# Altium schematic symbol library Altuim_Sch_Lib.SchLib: 63 symbols
Pins are listed as number, name and electrical type; pins without a type are passive.

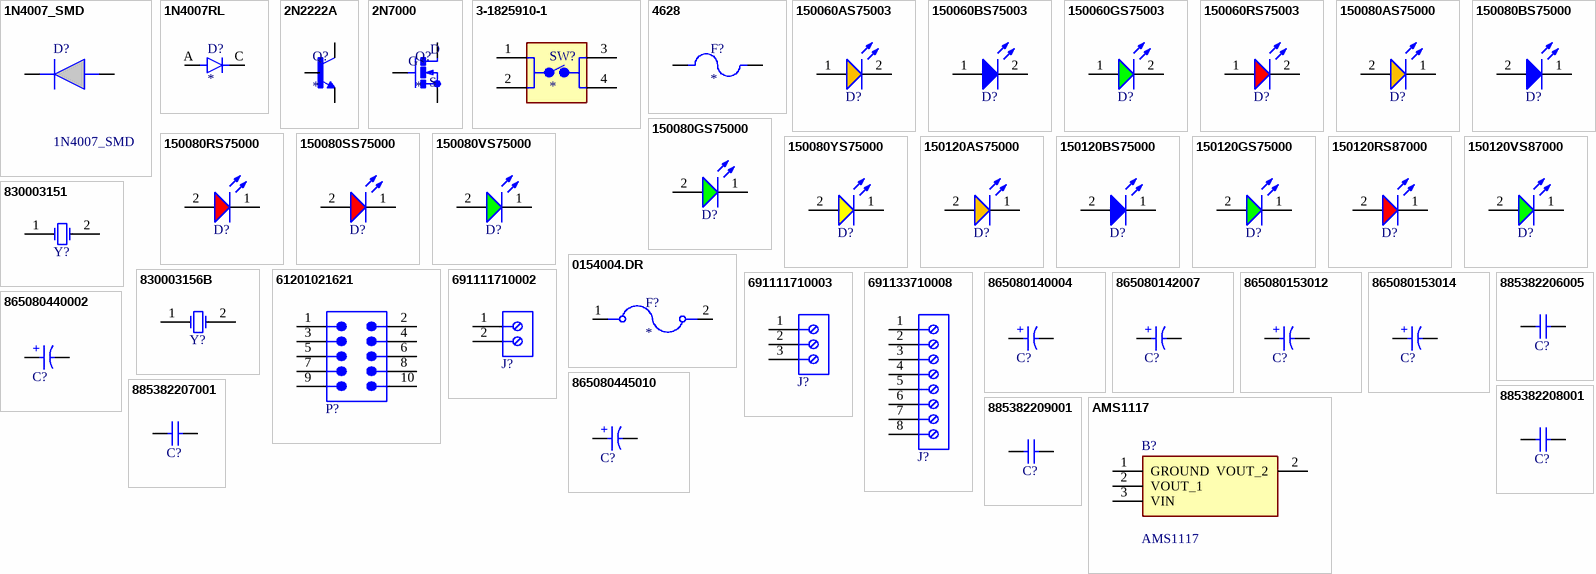
[diagram p0: symbols 1N4007_SMD to AMS1117]

## 1N4007_SMD
designator D?
RECTIFIER, 1KV, 1A, DO-214AC ROHS COMPLIANT: YES; Manufacturer_Name: MULTICOMP; Manufacturer_Part_Number: 1N4007 SMD; Geometry.Height: 2.62mm; Mouser Part Number: *; Mouser Price/Stock: *; Arrow Part Number: *; Arrow Price/Stock: *; Datasheet Link: https://componentsearchengine.com/Datasheets/2/1N4007 SMD.pdf
footprint DIOM5027X262N
footprint D3
pins: 1 K, 2 A

## 1N4007RL
designator D?
Diode Standard 1000 V 1A Through Hole Axial; MP: 1N4007RL; MF: ON Semiconductor; Availability: In Stock; Purchase-URL: https://pricing.snapeda.com/search/part/1N4007RL/?ref=eda; Package: DO-41-2 ON Semiconductor; Value: *; Check_prices: https://www.snapeda.com/parts/1N4007RL/Onsemi/view-part/?ref=eda; SnapEDA_Link: https://www.snapeda.com/parts/1N4007RL/Onsemi/view-part/?ref=snap; Price: None
footprint DIOAD1060W80L520D270
pins: A, C

## 2N2222A
designator Q?
Bipolar (BJT) Transistor NPN 40 V 600 mA 250MHz 625 mW Through Hole TO-92; MF: Diotec Semiconductor; MP: 2N2222A; Package: TO-92-3 Diotec; Check_prices: https://www.snapeda.com/parts/2N2222A/Diotec/view-part/?ref=eda; Value: *; Purchase-URL: https://pricing.snapeda.com/search/part/2N2222A/?ref=eda; Availability: In Stock; SnapEDA_Link: https://www.snapeda.com/parts/2N2222A/Diotec/view-part/?ref=snap; Price: None
footprint 2N2222
pins: 1 E, 2 B, 3 C

## 2N7000
designator Q?
N-Channel 60 V 350mA (Tc) 1W (Tc) Through Hole TO-92-3; MF: STMicroelectronics; MP: 2N7000; SnapEDA_Link: https://www.snapeda.com/parts/2N7000/STMicroelectronics/view-part/?ref=snap; Package: E-PKG AXIAL-LEADED-2 ON Semiconductor; Value: *; Check_prices: https://www.snapeda.com/parts/2N7000/STMicroelectronics/view-part/?ref=eda
footprint TO92-
footprint TO92
pins: 1 D, 2 G, 3 S

## 3-1825910-1
designator SW?
Switch Push Button OFF (ON) SPST Round Button 0.05A 24VDC Momentary Contact PC Pins Thru-Hole; MF: TE Connectivity; MP: 3-1825910-1; Value: *; SnapEDA_Link: https://www.snapeda.com/parts/3-1825910-1/TE+Connectivity+ALCOSWITCH+Switches/view-part/?ref=snap; Purchase-URL: https://pricing.snapeda.com/search/part/3-1825910-1/?ref=eda; Availability: In Stock; Price: None; Package: None; Check_prices: https://www.snapeda.com/parts/3-1825910-1/TE+Connectivity+ALCOSWITCH+Switches/view-part/?ref=eda
footprint TE_3-1825910-1
footprint TE_3-1825910-1
pins: 1, 2, 3, 4

## 4628
designator F?
5mm Slim Line Fuse holder; MP: 4628; MF: Keystone; Check_prices: https://www.snapeda.com/parts/4628/Keystone/view-part/?ref=eda; Value: *; Availability: In Stock; Price: None; Package: None; SnapEDA_Link: https://www.snapeda.com/parts/4628/Keystone/view-part/?ref=snap; Purchase-URL: https://pricing.snapeda.com/search/part/4628/?ref=eda
footprint FUSE_4628
pins: 1, 2

## 150060AS75003
designator D?, comment Amber, 2V, 140°  (value not drawn)
WL-SMCW Mono-color Chip LED Waterclear, size 0603, Amber, 2V, 140°; Manufacturer Part Number: 150060AS75003; Manufacturer: Wurth Elektronik; Case/Size Code: 0603; Chip Technology: AlInGaP; Dominant Wavelength: 605nm; Luminous Intensity: 350mcd; Peak Wavelength: 610nm; Category: Signal LEDs; Match Code: WL-SMCW; ComponentLink1Description: Website Link; ComponentLink1URL: https://www.we-online.com/redexpert/article/150060AS75003?ad; ComponentLink2Description: Datasheet Link; ComponentLink2URL: https://www.we-online.com/redexpert/spec/150060AS75003?ad; Mount: Surface Mount; Operating Temperature Max: 100°C; Operating Temperature Min: -40°C; Packaging: Tape and Reel; Length: 1.6mm; Width: 0.8mm; Height: 0.7mm; Emitting Color: Amber; Forward Voltage: 2V; Viewing Angle: 140°
simulation model 0603_150060AS75003
footprint WL-SMCW_0603_150060xx75000 (SMD Mono-color Chip LED, body 1.6x0.8mm)
pins: 1 A, 2 K

## 150060BS75003
designator D?, comment Blue, 3.2V, 140°  (value not drawn)
WL-SMCW Mono-color Chip LED Waterclear, size 0603, Blue, 3.2V, 140°; Manufacturer Part Number: 150060BS75003; Manufacturer: Wurth Elektronik; Case/Size Code: 0603; Chip Technology: InGaN; Dominant Wavelength: 470nm; Luminous Intensity: 350mcd; Peak Wavelength: 465nm; Category: Signal LEDs; Match Code: WL-SMCW; ComponentLink1Description: Website Link; ComponentLink1URL: https://www.we-online.com/redexpert/article/150060BS75003?ad; ComponentLink2Description: Datasheet Link; ComponentLink2URL: https://www.we-online.com/redexpert/spec/150060BS75003?ad; Mount: Surface Mount; Operating Temperature Max: 100°C; Operating Temperature Min: -40°C; Packaging: Tape and Reel; Length: 1.6mm; Width: 0.8mm; Height: 0.7mm; Emitting Color: Blue; Forward Voltage: 3.2V; Viewing Angle: 140°
simulation model 0603_150060BS75003
footprint WL-SMCW_0603_150060xx75000 (SMD Mono-color Chip LED, body 1.6x0.8mm)
pins: 1 A, 2 K

## 150060GS75003
designator D?, comment Green, 3.2V, 140°  (value not drawn)
WL-SMCW Mono-color Chip LED Waterclear, size 0603, Green, 3.2V, 140°; Manufacturer Part Number: 150060GS75003; Manufacturer: Wurth Elektronik; Case/Size Code: 0603; Chip Technology: InGaN; Dominant Wavelength: 525nm; Luminous Intensity: 1600mcd; Peak Wavelength: 515nm; Category: Signal LEDs; Match Code: WL-SMCW; ComponentLink1Description: Website Link; ComponentLink1URL: https://www.we-online.com/redexpert/article/150060GS75003?ad; ComponentLink2Description: Datasheet Link; ComponentLink2URL: https://www.we-online.com/redexpert/spec/150060GS75003?ad; Mount: Surface Mount; Operating Temperature Max: 100°C; Operating Temperature Min: -40°C; Packaging: Tape and Reel; Length: 1.6mm; Width: 0.8mm; Height: 0.7mm; Emitting Color: Green; Forward Voltage: 3.2V; Viewing Angle: 140°
simulation model 0603_150060GS75003
footprint WL-SMCW_0603_150060xx75000 (SMD Mono-color Chip LED, body 1.6x0.8mm)
pins: 1 A, 2 K

## 150060RS75003
designator D?, comment Red, 2V, 140°  (value not drawn)
WL-SMCW Mono-color Chip LED Waterclear, size 0603, Red, 2V, 140°; Manufacturer Part Number: 150060RS75003; Manufacturer: Wurth Elektronik; Case/Size Code: 0603; Chip Technology: AlInGaP; Dominant Wavelength: 625nm; Luminous Intensity: 530mcd; Peak Wavelength: 630nm; Category: Signal LEDs; Match Code: WL-SMCW; ComponentLink1Description: Website Link; ComponentLink1URL: https://www.we-online.com/redexpert/article/150060RS75003?ad; ComponentLink2Description: Datasheet Link; ComponentLink2URL: https://www.we-online.com/redexpert/spec/150060RS75003?ad; Mount: Surface Mount; Operating Temperature Max: 100°C; Operating Temperature Min: -40°C; Packaging: Tape and Reel; Length: 1.6mm; Width: 0.8mm; Height: 0.7mm; Emitting Color: Red; Forward Voltage: 2V; Viewing Angle: 140°
simulation model 0603_150060RS75003
footprint WL-SMCW_0603_150060xx75000 (SMD Mono-color Chip LED, body 1.6x0.8mm)
pins: 1 A, 2 K

## 150080AS75000
designator D?, comment Amber, 2V, 140°  (value not drawn)
WL-SMCW Mono-color Chip LED Waterclear, size 0805, Amber, 2V, 140°; Manufacturer Part Number: 150080AS75000; Manufacturer: Wurth Elektronik; Case/Size Code: 0805; Chip Technology: AlInGaP; Dominant Wavelength: 605nm; Luminous Intensity: 130mcd; Peak Wavelength: 610nm; Category: Signal LEDs; Match Code: WL-SMCW; ComponentLink1Description: Website Link; ComponentLink1URL: https://www.we-online.com/redexpert/article/150080AS75000?ad; ComponentLink2Description: Datasheet Link; ComponentLink2URL: https://www.we-online.com/redexpert/spec/150080AS75000?ad; Mount: Surface Mount; Operating Temperature Max: 85°C; Operating Temperature Min: -40°C; Packaging: Tape and Reel; Length: 2mm; Width: 1.25mm; Height: 0.7mm; Emitting Color: Amber; Forward Voltage: 2V; Viewing Angle: 140°
simulation model 0805_150080AS75000
footprint WL-SMCW_0805_150080xx75000 (SMD Mono-color Chip LED, body 2.0x1.25mm)
pins: 1 K, 2 A

## 150080BS75000
designator D?, comment Blue, 3.2V, 140°  (value not drawn)
WL-SMCW Mono-color Chip LED Waterclear, size 0805, Blue, 3.2V, 140°; Manufacturer Part Number: 150080BS75000; Manufacturer: Wurth Elektronik; Case/Size Code: 0805; Chip Technology: InGaN; Dominant Wavelength: 470nm; Luminous Intensity: 145mcd; Peak Wavelength: 465nm; Category: Signal LEDs; Match Code: WL-SMCW; ComponentLink1Description: Website Link; ComponentLink1URL: https://www.we-online.com/redexpert/article/150080BS75000?ad; ComponentLink2Description: Datasheet Link; ComponentLink2URL: https://www.we-online.com/redexpert/spec/150080BS75000?ad; Mount: Surface Mount; Operating Temperature Max: 85°C; Operating Temperature Min: -40°C; Packaging: Tape and Reel; Length: 2mm; Width: 1.25mm; Height: 0.7mm; Emitting Color: Blue; Forward Voltage: 3.2V; Viewing Angle: 140°
simulation model 0805_150080BS75000
footprint WL-SMCW_0805_150080xx75000 (SMD Mono-color Chip LED, body 2.0x1.25mm)
pins: 1 K, 2 A

## 150080GS75000
designator D?, comment Green, 3.2V, 140°  (value not drawn)
WL-SMCW Mono-color Chip LED Waterclear, size 0805, Green, 3.2V, 140°; Manufacturer Part Number: 150080GS75000; Manufacturer: Wurth Elektronik; Case/Size Code: 0805; Chip Technology: InGaN; Dominant Wavelength: 525nm; Luminous Intensity: 450mcd; Peak Wavelength: 515nm; Category: Signal LEDs; Match Code: WL-SMCW; ComponentLink1Description: Website Link; ComponentLink1URL: https://www.we-online.com/redexpert/article/150080GS75000?ad; ComponentLink2Description: Datasheet Link; ComponentLink2URL: https://www.we-online.com/redexpert/spec/150080GS75000?ad; Mount: Surface Mount; Operating Temperature Max: 85°C; Operating Temperature Min: -40°C; Packaging: Tape and Reel; Length: 2mm; Width: 1.25mm; Height: 0.7mm; Emitting Color: Green; Forward Voltage: 3.2V; Viewing Angle: 140°
simulation model 0805_150080GS75000
footprint WL-SMCW_0805_150080xx75000 (SMD Mono-color Chip LED, body 2.0x1.25mm)
pins: 1 K, 2 A

## 150080RS75000
designator D?, comment Red, 2V, 140°  (value not drawn)
WL-SMCW Mono-color Chip LED Waterclear, size 0805, Red, 2V, 140°; Manufacturer Part Number: 150080RS75000; Manufacturer: Wurth Elektronik; Case/Size Code: 0805; Chip Technology: AlInGaP; Dominant Wavelength: 625nm; Luminous Intensity: 150mcd; Peak Wavelength: 630nm; Category: Signal LEDs; Match Code: WL-SMCW; ComponentLink1Description: Website Link; ComponentLink1URL: https://www.we-online.com/redexpert/article/150080RS75000?ad; ComponentLink2Description: Datasheet Link; ComponentLink2URL: https://www.we-online.com/redexpert/spec/150080RS75000?ad; Mount: Surface Mount; Operating Temperature Max: 85°C; Operating Temperature Min: -40°C; Packaging: Tape and Reel; Length: 2mm; Width: 1.25mm; Height: 0.7mm; Emitting Color: Red; Forward Voltage: 2V; Viewing Angle: 140°
simulation model 0805_150080RS75000
footprint WL-SMCW_0805_150080xx75000 (SMD Mono-color Chip LED, body 2.0x1.25mm)
pins: 1 K, 2 A

## 150080SS75000
designator D?, comment Super Red, 1.9V, 140°  (value not drawn)
WL-SMCW Mono-color Chip LED Waterclear, size 0805, Super Red, 1.9V, 140°; Manufacturer Part Number: 150080SS75000; Manufacturer: Wurth Elektronik; Case/Size Code: 0805; Chip Technology: AlInGaP; Dominant Wavelength: 630nm; Luminous Intensity: 60mcd; Peak Wavelength: 645nm; Category: Signal LEDs; Match Code: WL-SMCW; ComponentLink1Description: Website Link; ComponentLink1URL: https://www.we-online.com/redexpert/article/150080SS75000?ad; ComponentLink2Description: Datasheet Link; ComponentLink2URL: https://www.we-online.com/redexpert/spec/150080SS75000?ad; Mount: Surface Mount; Operating Temperature Max: 85°C; Operating Temperature Min: -40°C; Packaging: Tape and Reel; Length: 2mm; Width: 1.25mm; Height: 0.7mm; Emitting Color: Super Red; Forward Voltage: 1.9V; Viewing Angle: 140°
simulation model 0805_150080SS75000
footprint WL-SMCW_0805_150080xx75000 (SMD Mono-color Chip LED, body 2.0x1.25mm)
pins: 1 K, 2 A

## 150080VS75000
designator D?, comment Bright Green, 2V, 140°  (value not drawn)
WL-SMCW Mono-color Chip LED Waterclear, size 0805, Bright Green, 2V, 140°; Manufacturer Part Number: 150080VS75000; Manufacturer: Wurth Elektronik; Case/Size Code: 0805; Chip Technology: AlInGaP; Dominant Wavelength: 570nm; Luminous Intensity: 40mcd; Peak Wavelength: 572nm; Category: Signal LEDs; Match Code: WL-SMCW; ComponentLink1Description: Website Link; ComponentLink1URL: https://www.we-online.com/redexpert/article/150080VS75000?ad; ComponentLink2Description: Datasheet Link; ComponentLink2URL: https://www.we-online.com/redexpert/spec/150080VS75000?ad; Mount: Surface Mount; Operating Temperature Max: 85°C; Operating Temperature Min: -40°C; Packaging: Tape and Reel; Length: 2mm; Width: 1.25mm; Height: 0.7mm; Emitting Color: Bright Green; Forward Voltage: 2V; Viewing Angle: 140°
simulation model 0805_150080VS75000
footprint WL-SMCW_0805_150080xx75000 (SMD Mono-color Chip LED, body 2.0x1.25mm)
pins: 1 K, 2 A

## 150080YS75000
designator D?, comment Yellow, 2V, 140°  (value not drawn)
WL-SMCW Mono-color Chip LED Waterclear, size 0805, Yellow, 2V, 140°; Manufacturer Part Number: 150080YS75000; Manufacturer: Wurth Elektronik; Case/Size Code: 0805; Chip Technology: AlInGaP; Dominant Wavelength: 590nm; Luminous Intensity: 120mcd; Peak Wavelength: 595nm; Category: Signal LEDs; Match Code: WL-SMCW; ComponentLink1Description: Website Link; ComponentLink1URL: https://www.we-online.com/redexpert/article/150080YS75000?ad; ComponentLink2Description: Datasheet Link; ComponentLink2URL: https://www.we-online.com/redexpert/spec/150080YS75000?ad; Mount: Surface Mount; Operating Temperature Max: 85°C; Operating Temperature Min: -40°C; Packaging: Tape and Reel; Length: 2mm; Width: 1.25mm; Height: 0.7mm; Emitting Color: Yellow; Forward Voltage: 2V; Viewing Angle: 140°
simulation model 0805_150080YS75000
footprint WL-SMCW_0805_150080xx75000 (SMD Mono-color Chip LED, body 2.0x1.25mm)
pins: 1 K, 2 A

## 150120AS75000
designator D?, comment Amber, 2V, 140°  (value not drawn)
WL-SMCW Mono-color Chip LED Waterclear, size 1206, Amber, 2V, 140°; Manufacturer Part Number: 150120AS75000; Manufacturer: Wurth Elektronik; Case/Size Code: 1206; Chip Technology: AlInGaP; Dominant Wavelength: 605nm; Luminous Intensity: 140mcd; Peak Wavelength: 610nm; Category: Signal LEDs; Match Code: WL-SMCW; ComponentLink1Description: Website Link; ComponentLink1URL: https://www.we-online.com/redexpert/article/150120AS75000?ad; ComponentLink2Description: Datasheet Link; ComponentLink2URL: https://www.we-online.com/redexpert/spec/150120AS75000?ad; Mount: Surface Mount; Operating Temperature Max: 85°C; Operating Temperature Min: -40°C; Packaging: Tape and Reel; Length: 3.2mm; Width: 1.6mm; Height: 0.68mm; Emitting Color: Amber; Forward Voltage: 2V; Viewing Angle: 140°
simulation model 1206_150120AS75000
footprint WL-SMCW_1206_150120xx75000 (SMD Mono-color Chip LED, body 3.2x1.6mm)
pins: 1 K, 2 A

## 150120BS75000
designator D?, comment Blue, 3.2V, 140°  (value not drawn)
WL-SMCW Mono-color Chip LED Waterclear, size 1206, Blue, 3.2V, 140°; Manufacturer Part Number: 150120BS75000; Manufacturer: Wurth Elektronik; Case/Size Code: 1206; Chip Technology: InGaN; Dominant Wavelength: 470nm; Luminous Intensity: 145mcd; Peak Wavelength: 465nm; Category: Signal LEDs; Match Code: WL-SMCW; ComponentLink1Description: Website Link; ComponentLink1URL: https://www.we-online.com/redexpert/article/150120BS75000?ad; ComponentLink2Description: Datasheet Link; ComponentLink2URL: https://www.we-online.com/redexpert/spec/150120BS75000?ad; Mount: Surface Mount; Operating Temperature Max: 85°C; Operating Temperature Min: -40°C; Packaging: Tape and Reel; Length: 3.2mm; Width: 1.6mm; Height: 0.68mm; Emitting Color: Blue; Forward Voltage: 3.2V; Viewing Angle: 140°
simulation model 1206_150120BS75000
footprint WL-SMCW_1206_150120xx75000 (SMD Mono-color Chip LED, body 3.2x1.6mm)
pins: 1 K, 2 A

## 150120GS75000
designator D?, comment Green, 3.2V, 140°  (value not drawn)
WL-SMCW Mono-color Chip LED Waterclear, size 1206, Green, 3.2V, 140°; Manufacturer Part Number: 150120GS75000; Manufacturer: Wurth Elektronik; Case/Size Code: 1206; Chip Technology: InGaN; Dominant Wavelength: 525nm; Luminous Intensity: 450mcd; Peak Wavelength: 515nm; Category: Signal LEDs; Match Code: WL-SMCW; ComponentLink1Description: Website Link; ComponentLink1URL: https://www.we-online.com/redexpert/article/150120GS75000?ad; ComponentLink2Description: Datasheet Link; ComponentLink2URL: https://www.we-online.com/redexpert/spec/150120GS75000?ad; Mount: Surface Mount; Operating Temperature Max: 85°C; Operating Temperature Min: -40°C; Packaging: Tape and Reel; Length: 3.2mm; Width: 1.6mm; Height: 0.68mm; Emitting Color: Green; Forward Voltage: 3.2V; Viewing Angle: 140°
simulation model 1206_150120GS75000
footprint WL-SMCW_1206_150120xx75000 (SMD Mono-color Chip LED, body 3.2x1.6mm)
pins: 1 K, 2 A

## 150120RS87000
designator D?, comment Red, 2V, 70°  (value not drawn)
WL-SMCW Mono-color Chip LED Waterclear, size 1206, Red, 2V, 70°; Manufacturer Part Number: 150120RS87000; Manufacturer: Wurth Elektronik; Case/Size Code: 1206; Chip Technology: AlInGaP; Dominant Wavelength: 624nm; Luminous Intensity: 300mcd; Peak Wavelength: 632nm; Category: Signal LEDs; Match Code: WL-SMCW; ComponentLink1Description: Website Link; ComponentLink1URL: https://www.we-online.com/redexpert/article/150120RS87000?ad; ComponentLink2Description: Datasheet Link; ComponentLink2URL: https://www.we-online.com/redexpert/spec/150120RS87000?ad; Mount: Surface Mount; Operating Temperature Max: 85°C; Operating Temperature Min: -40°C; Packaging: Tape and Reel; Length: 3.2mm; Width: 1.6mm; Height: 1.1mm; Emitting Color: Red; Forward Voltage: 2V; Viewing Angle: 70°
simulation model 1206_150120RS87000
footprint WL-SMCW_1206_150120xx75000 (SMD Mono-color Chip LED, body 3.2x1.6mm)
pins: 1 K, 2 A

## 150120VS87000
designator D?, comment Bright Green, 2V, 70°  (value not drawn)
WL-SMCW Mono-color Chip LED Waterclear, size 1206, Bright Green, 2V, 70°; Manufacturer Part Number: 150120VS87000; Manufacturer: Wurth Elektronik; Case/Size Code: 1206; Chip Technology: AlInGaP; Dominant Wavelength: 573nm; Luminous Intensity: 150mcd; Peak Wavelength: 575nm; Category: Signal LEDs; Match Code: WL-SMCW; ComponentLink1Description: Website Link; ComponentLink1URL: https://www.we-online.com/redexpert/article/150120VS87000?ad; ComponentLink2Description: Datasheet Link; ComponentLink2URL: https://www.we-online.com/redexpert/spec/150120VS87000?ad; Mount: Surface Mount; Operating Temperature Max: 85°C; Operating Temperature Min: -40°C; Packaging: Tape and Reel; Length: 3.2mm; Width: 1.6mm; Height: 1.1mm; Emitting Color: Bright Green; Forward Voltage: 2V; Viewing Angle: 70°
simulation model 1206_150120VS87000
footprint WL-SMCW_1206_150120xx75000 (SMD Mono-color Chip LED, body 3.2x1.6mm)
pins: 1 K, 2 A

## 0154004.DR
designator F?
154/154T/154L/154TL Series OMNI-BLOKÂ® Fuse and Holder Assembly; MP: 0154004.DR; Package: None; Availability: Unavailable; Value: *; Price: None
footprint FUSE_0154004.DR
pins: 1, 2

## 830003151
designator Y?, comment 8MHz  (value not drawn)
WE-XTAL Quartz Crystal, SMT, HC49/4HSMX, 8MHz, +/-30ppm; Manufacturer Part Number: 830003151; Manufacturer: Wurth Elektronik; Frequency Stability: +/-50ppm; Load Capacitance: 16pF; ComponentLink1Description: Website Link; ComponentLink1URL: https://www.we-online.com/redexpert/article/830003151?ad; ComponentLink2Description: Datasheet Link; ComponentLink2URL: https://www.we-online.com/redexpert/spec/830003151?ad; Category: Crystals; Match Code: WE-XTAL; Mount: Surface Mount; Operating Temperature Max: 60°C; Operating Temperature Min: -10°C; Packaging: Tape and Reel; Case/Size Code: HC49/4HSMX; Length: 11.4mm; Width: 4.9mm; Height: 4.3mm; Frequency: 8MHz; Frequency Tolerance: +/-30ppm
footprint WE-XTAL_HC49/4HSMX (Quartz Crystal, size HC49/4HSMX, body 11.4x4.9mm)
pins: 1 OSC1, 2 OSC2

## 830003156B
designator Y?, comment 8MHz  (value not drawn)
WE-XTAL Quartz Crystal, THT, HC49/4H, 8MHz, +/-30ppm; Manufacturer Part Number: 830003156B; Manufacturer: Wurth Elektronik; Frequency Stability: +/-50ppm; Load Capacitance: 30pF; ComponentLink1Description: Website Link; ComponentLink1URL: https://www.we-online.com/redexpert/article/830003156B?ad; ComponentLink2Description: Datasheet Link; ComponentLink2URL: https://www.we-online.com/redexpert/spec/830003156B?ad; Category: Crystals; Match Code: WE-XTAL; Mount: Through Hole; Operating Temperature Max: 70°C; Operating Temperature Min: -20°C; Packaging: Bulk; Case/Size Code: HC49/4H; Length: 11.05mm; Width: 4.7mm; Height: 4.1mm; Frequency: 8MHz; Frequency Tolerance: +/-30ppm
footprint WE-XTAL_HC49/4H (Quartz Crystal, size HC49/4H, body 11.05x4.7mm)
pins: 1 OSC1, 2 OSC2

## 61201021621
designator P?  (value not drawn)
WR-BHD Male Box Header, THT Straight, pitch 2.54mm, 2 Row, 10 pin; Manufacturer: Wurth Elektronik; Contact Resistance: 20mOhm; Insulation Resistance: 1000MOhm; Rated Current: 3A; Working Voltage: 250V; Withstanding Voltage: 500V; Manufacturer Part Number: 61201021621; Category: Wire-to-Board Connectors; Match Code: WR-BHD; ComponentLink1Description: Website Link; ComponentLink1URL: https://www.we-online.com/redexpert/article/61201021621?ad; ComponentLink2Description: Datasheet Link; ComponentLink2URL: https://www.we-online.com/redexpert/spec/61201021621?ad; Mount: Through Hole; Operating Temperature Max: 105°C; Operating Temperature Min: -40°C; Packaging: Tray; Length: 20.36mm; Width: 9.1mm; Height: 9.1mm; Gender: Male; Number of Pins: 10; Number of Rows: 2; Orientation: Straight; Pitch: 2.54mm
footprint 61201021621 (10 pins, straight, gold plating)
pins: 1, 2, 3, 4, 5, 6, 7, 8, 9, 10

## 691111710002
designator J?  (value not drawn)
WR-TBL Series 111 Horizontal Entry Modular, THT, pitch 5mm, 2p; Manufacturer: Wurth Elektronik; Modularity: Yes; Rated Current: 15A; Working Voltage: 250V; ComponentLink1Description: Website Link; ComponentLink1URL: https://www.we-online.com/redexpert/article/691111710002?ad; ComponentLink2Description: Datasheet Link; ComponentLink2URL: https://www.we-online.com/redexpert/spec/691111710002?ad; Manufacturer Part Number: 691111710002; Category: Terminal Blocks; Match Code: WR-TBL; Mount: Through Hole; Operating Temperature Max: 105°C; Operating Temperature Min: -40°C; Packaging: Box; Application: Pressure Clamp; Number of Pins: 2; Number of Rows: 1; Orientation: Horizontal; Pitch: 5mm
footprint 691111710002 (5,00mm - modular - green - Horizontal entry with pressure clamp - 10,0mm height - 02p)
footprint 691134710002 (Serie 1347 - 5.00 mm_2 pins)
pins: 1, 2

## 691111710003
designator J?  (value not drawn)
WR-TBL Series 111 Horizontal Entry Modular, THT, pitch 5mm, 3p; Manufacturer: Wurth Elektronik; Modularity: Yes; Rated Current: 15A; Working Voltage: 250V; ComponentLink1Description: Website Link; ComponentLink1URL: https://www.we-online.com/redexpert/article/691111710003?ad; ComponentLink2Description: Datasheet Link; ComponentLink2URL: https://www.we-online.com/redexpert/spec/691111710003?ad; Manufacturer Part Number: 691111710003; Category: Terminal Blocks; Match Code: WR-TBL; Mount: Through Hole; Operating Temperature Max: 105°C; Operating Temperature Min: -40°C; Packaging: Box; Application: Pressure Clamp; Number of Pins: 3; Number of Rows: 1; Orientation: Horizontal; Pitch: 5mm
footprint 691111710003 (5,00mm - modular - green - Horizontal entry with pressure clamp - 10,0mm height - 03p)
footprint 691134710003 (Serie 1347 - 5.00 mm_3 pins)
pins: 1, 2, 3

## 691133710008
designator J?  (value not drawn)
WR-TBL Series 1337 Horizontal Cable Entry, THT, pitch 5mm, 8p; Manufacturer: Wurth Elektronik; Modularity: No; Rated Current: 18A; Working Voltage: 300V; ComponentLink1Description: Website Link; ComponentLink1URL: https://www.we-online.com/redexpert/article/691133710008?ad; ComponentLink2Description: Datasheet Link; ComponentLink2URL: https://www.we-online.com/redexpert/spec/691133710008?ad; Manufacturer Part Number: 691133710008; Category: Terminal Blocks; Match Code: WR-TBL; Mount: Through Hole; Operating Temperature Max: 120°C; Operating Temperature Min: -30°C; Packaging: Box; Application: Pressure Clamp; Number of Pins: 8; Number of Rows: 1; Orientation: Horizontal; Pitch: 5mm
footprint 691133710008 (Serie 1337 - 5.00 mm_8 pins)
footprint 691241710008 (Serie 2417 - 5.00 mm _ 8 pins)
pins: 1, 2, 3, 4, 5, 6, 7, 8

## 865080140004
designator C?, comment 47uF  (value not drawn)
WCAP-ASLI Aluminum Electrolytic Capacitor, V-Chip, D4 x H5.5mm, 47uF, 6.3V; Manufacturer Part Number: 865080140004; Manufacturer: Wurth Elektronik; Capacitance Tolerance: +/-20%; Dissipation Factor: 24%; Endurance: 2000h; Leakage Current: 3uA; Ripple Current: 86mA; Technical Reference: ASEB055470M6R3DVCTAB000; Category: Aluminum Electrolytic Capacitors; Match Code: WCAP-ASLI; ComponentLink1Description: Website Link; ComponentLink1URL: https://www.we-online.com/redexpert/article/865080140004?ad; ComponentLink2Description: Datasheet Link; ComponentLink2URL: https://www.we-online.com/redexpert/spec/865080140004?ad; Mount: Surface Mount; Operating Temperature Max: 105°C; Operating Temperature Min: -55°C; Packaging: Tape and Reel; Height: 5.5mm; Diameter: 4mm; Capacitance: 47uF; Rated Voltage (DC): 6.3V
simulation model 865080140004_47uF
footprint WCAP-ASLI_D4H5.5 (Aluminium Electrolytic V-Chip SMT Capacitors, 4x5.5mm)
pins: 1 P, 2 N
text: +

## 865080142007
designator C?, comment 100uF  (value not drawn)
WCAP-ASLI Aluminum Electrolytic Capacitor, V-Chip, D5 x H5.5mm, 100uF, 6.3V; Manufacturer Part Number: 865080142007; Manufacturer: Wurth Elektronik; Capacitance Tolerance: +/-20%; Dissipation Factor: 24%; Endurance: 2000h; Leakage Current: 6.3uA; Ripple Current: 170mA; Technical Reference: ASEC055101M6R3DVCTBB000; Category: Aluminum Electrolytic Capacitors; Match Code: WCAP-ASLI; ComponentLink1Description: Website Link; ComponentLink1URL: https://www.we-online.com/redexpert/article/865080142007?ad; ComponentLink2Description: Datasheet Link; ComponentLink2URL: https://www.we-online.com/redexpert/spec/865080142007?ad; Mount: Surface Mount; Operating Temperature Max: 105°C; Operating Temperature Min: -55°C; Packaging: Tape and Reel; Height: 5.5mm; Diameter: 5mm; Capacitance: 100uF; Rated Voltage (DC): 6.3V
simulation model 865080142007_100uF
footprint WCAP-ASLI_D5H5.5 (Aluminium Electrolytic V-Chip SMT Capacitors, 5x5.5mm)
pins: 1 P, 2 N
text: +

## 865080153012
designator C?, comment 470uF  (value not drawn)
WCAP-ASLI Aluminum Electrolytic Capacitor, V-Chip, D8 x H10.5mm, 470uF, 6.3V; Manufacturer Part Number: 865080153012; Manufacturer: Wurth Elektronik; Capacitance Tolerance: +/-20%; Dissipation Factor: 24%; Endurance: 2000h; Leakage Current: 29.61uA; Ripple Current: 450mA; Technical Reference: ASEE105471M6R3DVCTEB000; Category: Aluminum Electrolytic Capacitors; Match Code: WCAP-ASLI; ComponentLink1Description: Website Link; ComponentLink1URL: https://www.we-online.com/redexpert/article/865080153012?ad; ComponentLink2Description: Datasheet Link; ComponentLink2URL: https://www.we-online.com/redexpert/spec/865080153012?ad; Mount: Surface Mount; Operating Temperature Max: 105°C; Operating Temperature Min: -55°C; Packaging: Tape and Reel; Height: 10.5mm; Diameter: 8mm; Capacitance: 470uF; Rated Voltage (DC): 6.3V
simulation model 865080153012_470uF
footprint WCAP-ASLI_D8H10.5 (Aluminium Electrolytic V-Chip SMT Capacitors, 8x10.5mm)
pins: 1 P, 2 N
text: +

## 865080153014
designator C?, comment 1000uF  (value not drawn)
WCAP-ASLI Aluminum Electrolytic Capacitor, V-Chip, D8 x H10.5mm, 1000uF, 6.3V; Manufacturer Part Number: 865080153014; Manufacturer: Wurth Elektronik; Capacitance Tolerance: +/-20%; Dissipation Factor: 24%; Endurance: 2000h; Leakage Current: 63uA; Ripple Current: 530mA; Technical Reference: ASEE105102M6R3DVCTEB000; Category: Aluminum Electrolytic Capacitors; Match Code: WCAP-ASLI; ComponentLink1Description: Website Link; ComponentLink1URL: https://www.we-online.com/redexpert/article/865080153014?ad; ComponentLink2Description: Datasheet Link; ComponentLink2URL: https://www.we-online.com/redexpert/spec/865080153014?ad; Mount: Surface Mount; Operating Temperature Max: 105°C; Operating Temperature Min: -55°C; Packaging: Tape and Reel; Height: 10.5mm; Diameter: 8mm; Capacitance: 1000uF; Rated Voltage (DC): 6.3V
simulation model 865080153014_1mF
footprint WCAP-ASLI_D8H10.5 (Aluminium Electrolytic V-Chip SMT Capacitors, 8x10.5mm)
pins: 1 P, 2 N
text: +

## 865080440002
designator C?, comment 10uF  (value not drawn)
WCAP-ASLI Aluminum Electrolytic Capacitor, V-Chip, D4 x H5.5mm, 10uF, 25V; Manufacturer Part Number: 865080440002; Manufacturer: Wurth Elektronik; Capacitance Tolerance: +/-20%; Dissipation Factor: 14%; Endurance: 2000h; Leakage Current: 3uA; Ripple Current: 85mA; Technical Reference: ASEB055100M025DVCTAB000; Category: Aluminum Electrolytic Capacitors; Match Code: WCAP-ASLI; ComponentLink1Description: Website Link; ComponentLink1URL: https://www.we-online.com/redexpert/article/865080440002?ad; ComponentLink2Description: Datasheet Link; ComponentLink2URL: https://www.we-online.com/redexpert/spec/865080440002?ad; Mount: Surface Mount; Operating Temperature Max: 105°C; Operating Temperature Min: -55°C; Packaging: Tape and Reel; Height: 5.5mm; Diameter: 4mm; Capacitance: 10uF; Rated Voltage (DC): 25V
simulation model 865080440002_10uF
footprint WCAP-ASLI_D4H5.5 (Aluminium Electrolytic V-Chip SMT Capacitors, 4x5.5mm)
pins: 1 P, 2 N
text: +

## 865080445010
designator C?, comment 100uF  (value not drawn)
WCAP-ASLI Aluminum Electrolytic Capacitor, V-Chip, D6.3 x H7.7mm, 100uF, 25V; Manufacturer Part Number: 865080445010; Manufacturer: Wurth Elektronik; Capacitance Tolerance: +/-20%; Dissipation Factor: 14%; Endurance: 2000h; Leakage Current: 25uA; Ripple Current: 290mA; Technical Reference: ASED077101M025DVCTCB000; Category: Aluminum Electrolytic Capacitors; Match Code: WCAP-ASLI; ComponentLink1Description: Website Link; ComponentLink1URL: https://www.we-online.com/redexpert/article/865080445010?ad; ComponentLink2Description: Datasheet Link; ComponentLink2URL: https://www.we-online.com/redexpert/spec/865080445010?ad; Mount: Surface Mount; Operating Temperature Max: 105°C; Operating Temperature Min: -55°C; Packaging: Tape and Reel; Height: 7.7mm; Diameter: 6.3mm; Capacitance: 100uF; Rated Voltage (DC): 25V
simulation model 865080445010_100uF
footprint WCAP-ASLI_D6.3H7.7 (Aluminium Electrolytic V-Chip SMT Capacitors, 6.3x7.7mm)
pins: 1 P, 2 N
text: +

## 885382206005
designator C?, comment 1nF  (value not drawn)
WCAP-CSST Multilayer Ceramic Chip Capacitor, Soft Termination, size 0603, X7R Class II, 1nF, 200VDC; Manufacturer Part Number: 885382206005; Manufacturer: Wurth Elektronik; Case/Size Code: 0603; Capacitance Tolerance: +/-10%; Dissipation Factor: 2.5%; Insulation Resistance: 10GΩ; Rated Voltage (DC): 200V; Technical Reference: X7R0603102K200DFCT1S000; Category: Multilayer Ceramic Chip Capacitors; Match Code: WCAP-CSST; ComponentLink1Description: Website Link; ComponentLink1URL: https://www.we-online.com/redexpert/article/885382206005?ad; ComponentLink2Description: Datasheet Link; ComponentLink2URL: https://www.we-online.com/redexpert/spec/885382206005?ad; Mount: Surface Mount; Operating Temperature Max: 125°C; Operating Temperature Min: -55°C; Packaging: Tape and Reel; Length: 1.6mm; Width: 0.8mm; Height: 0.8mm; Capacitance: 1nF; Ceramic Type: X7R Class II
footprint WCAP-CSST_0603_L1.6W0.8H0.8_Reflow (Soft Termination MLCC, body 1.60x0.80mm)
footprint WCAP-CSST_0603_L1.6W0.8H0.8_Wave (Soft Termination MLCC, body 1.60x0.80mm)
simulation model 0603_885382206005_1nF
pins: 1, 2

## 885382207001
designator C?, comment 1µF  (value not drawn)
WCAP-CSST Multilayer Ceramic Chip Capacitor, Soft Termination, size 0805, X7R Class II, 1µF, 16VDC; Manufacturer Part Number: 885382207001; Manufacturer: Wurth Elektronik; Case/Size Code: 0805; Capacitance Tolerance: +/-10%; Dissipation Factor: 5%; Insulation Resistance: 0.5GΩ; Rated Voltage (DC): 16V; Technical Reference: X7R0805105K016DFCT1S000; Category: Multilayer Ceramic Chip Capacitors; Match Code: WCAP-CSST; ComponentLink1Description: Website Link; ComponentLink1URL: https://www.we-online.com/redexpert/article/885382207001?ad; ComponentLink2Description: Datasheet Link; ComponentLink2URL: https://www.we-online.com/redexpert/spec/885382207001?ad; Mount: Surface Mount; Operating Temperature Max: 125°C; Operating Temperature Min: -55°C; Packaging: Tape and Reel; Length: 2mm; Width: 1.25mm; Height: 1.25mm; Capacitance: 1µF; Ceramic Type: X7R Class II
simulation model 0805_885382207001_1uF
footprint WCAP-CSST_0805_L2W1.25H1.25 (Soft Termination MLCC, body 2.00x1.25mm)
pins: 1, 2

## 885382208001
designator C?, comment 2.2µF  (value not drawn)
WCAP-CSST Multilayer Ceramic Chip Capacitor, Soft Termination, size 1206, X7R Class II, 2.2µF, 25VDC; Manufacturer Part Number: 885382208001; Manufacturer: Wurth Elektronik; Case/Size Code: 1206; Capacitance Tolerance: +/-10%; Dissipation Factor: 3.5%; Insulation Resistance: 0.2GΩ; Rated Voltage (DC): 25V; Technical Reference: X7R1206225K025DFCT1S000; Category: Multilayer Ceramic Chip Capacitors; Match Code: WCAP-CSST; ComponentLink1Description: Website Link; ComponentLink1URL: https://www.we-online.com/redexpert/article/885382208001?ad; ComponentLink2Description: Datasheet Link; ComponentLink2URL: https://www.we-online.com/redexpert/spec/885382208001?ad; Mount: Surface Mount; Operating Temperature Max: 125°C; Operating Temperature Min: -55°C; Packaging: Tape and Reel; Length: 3.2mm; Width: 1.6mm; Height: 1.6mm; Capacitance: 2.2µF; Ceramic Type: X7R Class II
simulation model 1206_885382208001_2.2uF
footprint WCAP-CSST_1206_L3.2W1.6H1.25 (Soft Termination MLCC, body 3.20x1.60mm)
pins: 1, 2

## 885382209001
designator C?, comment 33nF  (value not drawn)
WCAP-CSST Multilayer Ceramic Chip Capacitor, Soft Termination, size 1210, X7R Class II, 33nF, 500VDC; Manufacturer Part Number: 885382209001; Manufacturer: Wurth Elektronik; Case/Size Code: 1210; Capacitance Tolerance: +/-10%; Dissipation Factor: 2.5%; Insulation Resistance: 3GΩ; Rated Voltage (DC): 500V; Technical Reference: X7R1210333K500DFCT1S000; Category: Multilayer Ceramic Chip Capacitors; Match Code: WCAP-CSST; ComponentLink1Description: Website Link; ComponentLink1URL: https://www.we-online.com/redexpert/article/885382209001?ad; ComponentLink2Description: Datasheet Link; ComponentLink2URL: https://www.we-online.com/redexpert/spec/885382209001?ad; Mount: Surface Mount; Operating Temperature Max: 125°C; Operating Temperature Min: -55°C; Packaging: Tape and Reel; Length: 3.2mm; Width: 2.5mm; Height: 1.6mm; Capacitance: 33nF; Ceramic Type: X7R Class II
simulation model 1210_885382209001_33nF
footprint WCAP-CSST_1210_L3.2W2.5H1.6 (Soft Termination MLCC, body 3.20x2.50mm)
pins: 1, 2

## AMS1117
designator B?
1117; Manufacturer_Name: Advanced Monolithic Systems; Geometry.Height: 1.8mm; Manufacturer_Part_Number: AMS1117; Mouser Part Number: *; Mouser Price/Stock: *; Arrow Part Number: *; Arrow Price/Stock: *; Datasheet Link: https://datasheet.lcsc.com/szlcsc/Advanced-Monolithic-Systems-AMS-AMS1117-ADJ_C6188.pdf
footprint SOT229P700X180-4N
footprint 78MXX2
pins: 1 GROUND, 2 VOUT_1, 2 VOUT_2, 3 VIN

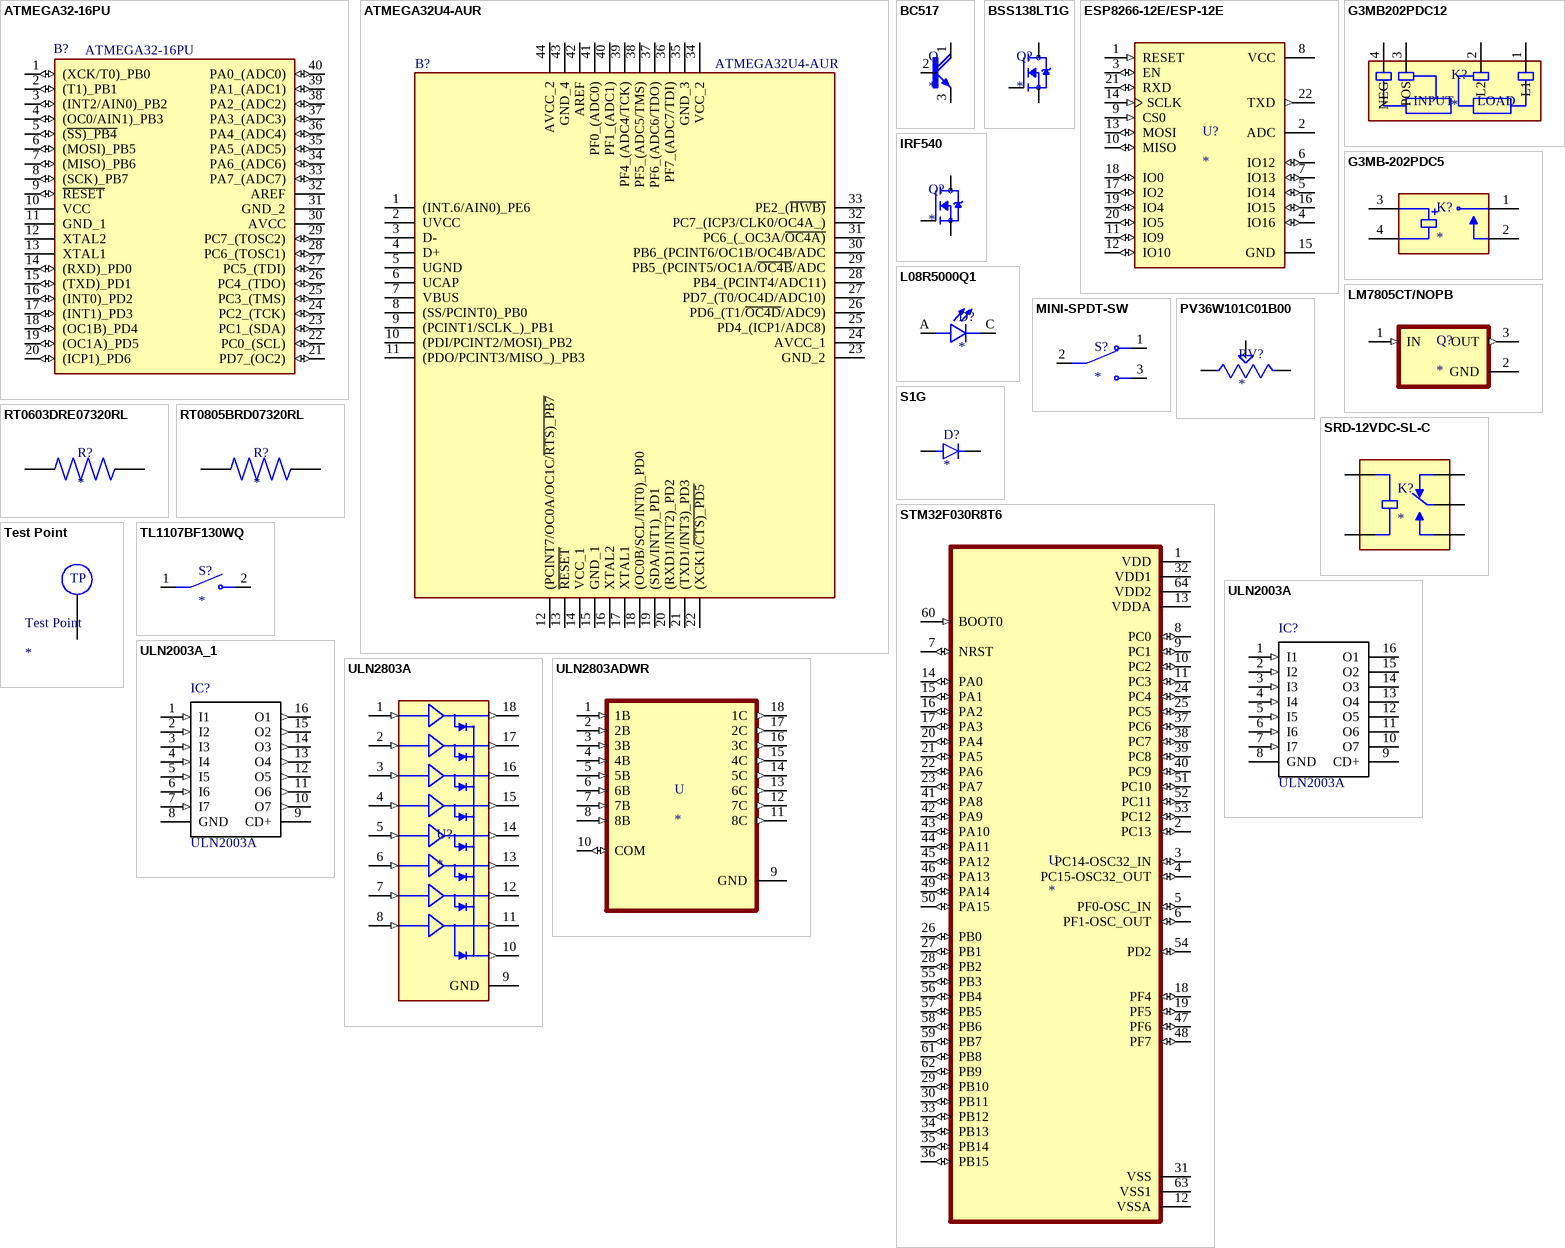
[diagram p1: symbols ATMEGA32-16PU to ULN2803ADWR]

## ATMEGA32-16PU
designator B?
ATMEGA32-16PU, 8 bit AVR Microcontroller 16MHz 1024 B, 32 kB Flash, 2 kB RAM, I2C 40-Pin PDIP; Manufacturer_Name: Microchip; Geometry.Height: 4.826mm; Manufacturer_Part_Number: ATMEGA32-16PU; Mouser Part Number: 556-ATMEGA32-16PU; Mouser Price/Stock: https://www.mouser.co.uk/ProductDetail/Microchip-Technology/ATMEGA32-16PU?qs=aqrrBurbvGdpkmgj7RWmsQ%3D%3D; Arrow Part Number: ATMEGA32-16PU; Arrow Price/Stock: https://www.arrow.com/en/products/atmega32-16pu/microchip-technology?region=nac; Datasheet Link: https://datasheet.datasheetarchive.com/originals/distributors/Datasheets_SAMA/d5bf27914111a61a5f5ef80f30f6d660.pdf
footprint DIP1556W56P254L5232H483Q40N
pins: 1 (XCK/T0)_PB0 (io), 2 (T1)_PB1 (io), 3 (INT2/AIN0)_PB2 (io), 4 (OC0/AIN1)_PB3 (io), 5 (~{SS)_PB4} (io), 6 (MOSI)_PB5 (io), 7 (MISO)_PB6 (io), 8 (SCK)_PB7 (io), 9 ~{RESET} (io), 10 VCC (power), 11 GND_1 (power), 12 XTAL2, 13 XTAL1, 14 (RXD)_PD0 (io), 15 (TXD)_PD1 (io), 16 (INT0)_PD2 (io), 17 (INT1)_PD3 (io), 18 (OC1B)_PD4 (io), 19 (OC1A)_PD5 (io), 20 (ICP1)_PD6 (io), 21 PD7_(OC2) (io), 22 PC0_(SCL) (io), 23 PC1_(SDA) (io), 24 PC2_(TCK) (io), 25 PC3_(TMS) (io), 26 PC4_(TDO) (io), 27 PC5_(TDI) (io), 28 PC6_(TOSC1) (io), 29 PC7_(TOSC2) (io), 30 AVCC (power), 31 GND_2 (power), 32 AREF (power), 33 PA7_(ADC7) (io), 34 PA6_(ADC6) (io), 35 PA5_(ADC5) (io), 36 PA4_(ADC4) (io), 37 PA3_(ADC3) (io), 38 PA2_(ADC2) (io), 39 PA1_(ADC1) (io), 40 PA0_(ADC0) (io)

## ATMEGA32U4-AUR
designator B?
8-bit Microcontrollers - MCU USB 32K Flash 16 MHz; Manufacturer_Name: Microchip; Geometry.Height: 1.2mm; Manufacturer_Part_Number: ATMEGA32U4-AUR; Mouser Part Number: 556-ATMEGA32U4-AUR; Mouser Price/Stock: https://www.mouser.co.uk/ProductDetail/Microchip-Technology/ATMEGA32U4-AUR?qs=rBGENRD8NwIbVIAimLns%252BA%3D%3D; Arrow Part Number: ATMEGA32U4-AUR; Arrow Price/Stock: https://www.arrow.com/en/products/atmega32u4-aur/microchip-technology?region=nac; Datasheet Link: http://www.farnell.com/datasheets/2047909.pdf
footprint QFP80P1200X1200X120-44N
pins: 1 (INT.6/AIN0)_PE6, 2 UVCC, 3 D-, 4 D+, 5 UGND, 6 UCAP, 7 VBUS, 8 (SS/PCINT0)_PB0, 9 (PCINT1/SCLK_)_PB1, 10 (PDI/PCINT2/MOSI)_PB2, 11 (PDO/PCINT3/MISO_)_PB3, 12 (PCINT7/OC0A/OC1C/~{RTS)_PB7}, 13 ~{RESET}, 14 VCC_1, 15 GND_1, 16 XTAL2, 17 XTAL1, 18 (OC0B/SCL/INT0)_PD0, 19 (SDA/INT1)_PD1, 20 (RXD1/INT2)_PD2, 21 (TXD1/INT3)_PD3, 22 (XCK1/~{CTS)_PD5}, 23 GND_2, 24 AVCC_1, 25 PD4_(ICP1/ADC8), 26 PD6_(T1/~{OC4D}/ADC9), 27 PD7_(T0/OC4D/ADC10), 28 PB4_(PCINT4/ADC11), 29 PB5_(PCINT5/OC1A/~{OC4B}/ADC, 30 PB6_(PCINT6/OC1B/OC4B/ADC, 31 PC6_(_OC3A/~{OC4A)}, 32 PC7_(ICP3/CLK0/OC4A_), 33 PE2_(~{HWB)}, 34 VCC_2, 35 GND_3, 36 PF7_(ADC7/TDI), 37 PF6_(ADC6/TDO), 38 PF5_(ADC5/TMS), 39 PF4_(ADC4/TCK), 40 PF1_(ADC1), 41 PF0_(ADC0), 42 AREF, 43 GND_4, 44 AVCC_2

## BC517
designator Q
Bipolar _BJT_ Transistor NPN - Darlington 30V 1A 200MHz 625mW Through Hole TO-92-3; MF: ON; MP: BC517; SnapEDA_Link: https://www.snapeda.com/parts/BC517/ON%20Semiconductor/view-part/703680/?ref=snap; Price: None; Availability: Unavailable; Package: TO-92 NXP Semiconductors; Value: *
footprint TO-92-TO92-127P520H787-3
footprint TO92-bc517
pins: 1 C, 2 B, 3 E

## BSS138LT1G
designator Q?
N-Channel 50 V 200mA (Ta) 225mW (Ta) Surface Mount SOT-23-3 (TO-236); MF: onsemi; MP: BSS138LT1G; SnapEDA_Link: https://www.snapeda.com/parts/BSS138LT1G/Onsemi/view-part/?ref=snap; Package: None; Value: *; Check_prices: https://www.snapeda.com/parts/BSS138LT1G/Onsemi/view-part/?ref=eda
footprint SOT95P237X111-3N
pins: 1 G, 2 S, 3 D

## ESP8266-12E/ESP-12E
designator U?
ESP-12E WiFi Module; MF: {'manufacturer': u'AI-Thinker'}; MP: ESP8266-12E/ESP-12E; Package: None; Price: None; Value: *; Availability: Unavailable
footprint XCVR_ESP8266-12E/ESP-12E
pins: 1 RESET (in), 2 ADC, 3 EN (io), 4 IO16 (io), 5 IO14 (io), 6 IO12 (io), 7 IO13 (io), 8 VCC (power), 9 CS0 (in), 10 MISO (io), 11 IO9 (io), 12 IO10 (io), 13 MOSI (io), 14 SCLK (in), 15 GND (power), 16 IO15 (io), 17 IO2 (io), 18 IO0 (io), 19 IO4 (io), 20 IO5 (io), 21 RXD (io), 22 TXD (out)

## G3MB202PDC12
designator K?
Solid State SPST-NO (1 Form A) 4-SIP; MF: Omron Automation; MP: G3MB-202P-DC12; Value: *; Check_prices: https://www.snapeda.com/parts/G3MB-202P-DC12/Omron+Automation+and+Safety/view-part/?ref=eda; Price: None; SnapEDA_Link: https://www.snapeda.com/parts/G3MB-202P-DC12/Omron+Automation+and+Safety/view-part/?ref=snap; Availability: Not in stock; Package: None
footprint RELAY_G3MB202PDC12
pins: 1 L1 (power), 2 L2 (power), 3 POS (power), 4 NEG (power)
text: INPUT; LOAD

## G3MB-202PDC5
designator K?
Solid State SPST-NO (1 Form A) 4-SIP; MP: G3MB-202P DC5; MF: Omron Automation; SnapEDA_Link: https://www.snapeda.com/parts/G3MB-202P%20DC5/Omron+Automation+and+Safety/view-part/?ref=snap; Value: *; Availability: Not in stock; Check_prices: https://www.snapeda.com/parts/G3MB-202P%20DC5/Omron+Automation+and+Safety/view-part/?ref=eda; Package: None; Price: None
footprint RELAY_G3MB-202PDC5
pins: 1, 2, 3, 4

## IRF540
designator Q?
N-Channel 100 V 28A (Tc) 3.7W (Ta), 150W (Tc) Surface Mount DÂ²PAK (TO-263); MF: Vishay; MP: IRF540; SnapEDA_Link: https://www.snapeda.com/parts/IRF540/Vishay+Siliconix/view-part/?ref=snap; Package: TO-220-3 Vishay; Value: *; Check_prices: https://www.snapeda.com/parts/IRF540/Vishay+Siliconix/view-part/?ref=eda
footprint TO254P1024X444X1989-3
pins: 1 G, 2 D, 3 S

## L08R5000Q1
designator D?
LED, 5MM, ORANGE; LED / Lamp Size: 5mm / T-1 3/4; LED Colour: Orange; Typ Luminous Intensity: 4.3mcd; Viewing Angle: ...; MP: L08R5000Q1; MF: LED Technology; Value: *; SnapEDA_Link: https://www.snapeda.com/parts/L08R5000Q1/LED+Technology/view-part/?ref=snap; Check_prices: https://www.snapeda.com/parts/L08R5000Q1/LED+Technology/view-part/?ref=eda; Availability: In Stock; Price: None; Package: None
footprint LEDRD254W57D500H1070
pins: A, C

## LM7805CT/NOPB
designator Q?
IC Regulator 7805T/LM7805T COMSET RoHS TO220; MP: LM7805CT; MF: Comset Semiconductors; Price: None; Availability: Not in stock; Package: TO-220 Comset Semiconductors; SnapEDA_Link: https://www.snapeda.com/parts/LM7805CT/Comset+Semiconductors/view-part/?ref=snap; Check_prices: https://www.snapeda.com/parts/LM7805CT/Comset+Semiconductors/view-part/?ref=eda; Value: *
footprint Lm7807_Reg
pins: 1 IN (in), 2 GND (power), 3 OUT (out)

## MINI-SPDT-SW
designator S?
Simple breadboard friendly SPDT slide switch. Rated at 30V/200mA with operating force of 250 +/-100gf.; MP: MINI-SPDT-SW; Availability: Unavailable; Package: None; Value: *; Price: None
footprint Slider_SW_MINI-SPDT-SW
pins: 1, 2, 3

## PV36W101C01B00
designator RV?
100 Ohms 0.5W, 1/2W PC Pins Through Hole Trimmer Potentiometer Cermet 25.0 Turn Top Adjustment; MF: Bourns; MP: PV36W101C01B00; DigiKey_Part_Number: 118-PV36W101C01B00-ND; Purchase-URL: https://pricing.snapeda.com/search?q=PV36W101C01B00&ref=eda; Package: PV36W Bourns; Check_prices: https://www.snapeda.com/parts/PV36W101C01B00/Bourns/view-part/?ref=eda; Value: *; SnapEDA_Link: https://www.snapeda.com/parts/PV36W101C01B00/Bourns/view-part/?ref=snap
footprint TRIM_PV36W101C01B00
pins: 1, 2, 3

## RT0603DRE07320RL
designator R?
MP: RT0603DRE07320RL; Package: None; Price: None; Value: *; Availability: Unavailable
footprint RESC1608X55N
pins: 1, 2

## RT0805BRD07320RL
designator R?
RES SMD 320 OHM 0.1% 1/8W 0805; MP: RT0805BRD07320RL; Package: None; Price: None; Value: *; Availability: Unavailable
footprint RESC2012X60N
pins: 1, 2

## S1G
designator D?
Diode Standard 400 V 1A Surface Mount DO-214AC (SMA); MP: S1G; MF: ON Semiconductor; SnapEDA_Link: https://www.snapeda.com/parts/S1G/Onsemi/view-part/?ref=snap; Value: *; Availability: In Stock; Purchase-URL: https://pricing.snapeda.com/search/part/S1G/?ref=eda; Check_prices: https://www.snapeda.com/parts/S1G/Onsemi/view-part/?ref=eda; Package: SMA Taiwan Semiconductor; Price: None
footprint DIO_S1G
footprint DIO_S1G
pins: 1 K, 2 A

## SRD-12VDC-SL-C
designator K?
General Purpose Non Latching 12VDC SPDT Through Hole Relays RoHS; MP: SRD-12VDC-SL-C; Price: None; Package: None; Availability: Unavailable; Value: *
footprint RELAY_SRD-12VDC-SL-C
pins: COIL1, COIL2, COM, NC, NO

## STM32F030R8T6
designator U
ARMÂ® CortexÂ®-M0 STM32F0 Microcontroller IC 32-Bit 48MHz 64KB _64K x 8_ FLASH; MP: STM32F030R8T6; MF: STMicroelectronics; Price: None; Package: LQFP-64 STMicroelectronics; Value: *; Availability: Unavailable; SnapEDA_Link: https://www.snapeda.com/parts/STM32F030R8T6/STMicroelectronics/view-part/312109/?ref=snap
footprint LQFP64_M & CONVERTER (Arm_With_Converter)
footprint LQFP64_M - CONVERTER (Arm_Converter)
pins: 1 VDD (power), 2 PC13 (io), 3 PC14-OSC32_IN (io), 4 PC15-OSC32_OUT (io), 5 PF0-OSC_IN (io), 6 PF1-OSC_OUT (io), 7 NRST (io), 8 PC0 (io), 9 PC1 (io), 10 PC2 (io), 11 PC3 (io), 12 VSSA (power), 13 VDDA (power), 14 PA0 (io), 15 PA1 (io), 16 PA2 (io), 17 PA3 (io), 18 PF4 (io), 19 PF5 (io), 20 PA4 (io), 21 PA5 (io), 22 PA6 (io), 23 PA7 (io), 24 PC4 (io), 25 PC5 (io), 26 PB0 (io), 27 PB1 (io), 28 PB2 (io), 29 PB10 (io), 30 PB11 (io), 31 VSS (power), 32 VDD1 (power), 33 PB12 (io), 34 PB13 (io), 35 PB14 (io), 36 PB15 (io), 37 PC6 (io), 38 PC7 (io), 39 PC8 (io), 40 PC9 (io), 41 PA8 (io), 42 PA9 (io), 43 PA10 (io), 44 PA11 (io), 45 PA12 (io), 46 PA13 (io), 47 PF6 (io), 48 PF7 (io), 49 PA14 (io), 50 PA15 (io), 51 PC10 (io), 52 PC11 (io), 53 PC12 (io), 54 PD2 (io), 55 PB3 (io), 56 PB4 (io), 57 PB5 (io), 58 PB6 (io), 59 PB7 (io), 60 BOOT0 (in), 61 PB8 (io), 62 PB9 (io), 63 VSS1 (power), 64 VDD2 (power)

## Test Point
designator Test Point  (no BOM)
footprint Test Point
pins: 1
text: TP

## TL1107BF130WQ
designator S?
MF: {'manufacturer': u'E-Switch'}; MP: TL1107BF130WQ; Package: None; Price: None; Value: *; Availability: Unavailable
footprint SW_TL1107BF130WQ
pins: 1, 2

## ULN2003A
designator IC?
DARLINGTON ARRAY 7NPN, 2003, DIP16; Transistor Polarity:NPN; Collector Emitter Voltage V(br)ceo:50V; DC Collector Current:500mA; DC Current Gain hFE:1000; Operating Temperature Range:-20Â°C to +85Â°C; Transistor Case Style:DIP; No. of Pins:16; SVHC:No SVHC (20-Jun-2011); Base Number:2003; Current Ic Continuous a Max:500mA; Device Marking:ULN2003A; IC Generic Number:2003; Input Type:TTL, CMOS 5V; Input Voltage Max:5V; Logic Function Number:2003; Module Configuration:Seven; No. of Channels:7; No. of Transistors:7; Operating Temperature Max:85Â°C; Operating Temperature Min:-20Â°C; Output Current Max:500mA; Output Type:Open Collector; Output Voltage Max:50V; Package / Case:DIP; Termination Type:Through Hole; Transistor Type:Power Darlington; MF: STMicroelectronics; SnapEDA_Link: https://www.snapeda.com/parts/ULN2003A/STMicroelectronics/view-part/?ref=snap; Package: DIP-16 Sprague; MP: ULN2003A; Check_prices: https://www.snapeda.com/parts/ULN2003A/STMicroelectronics/view-part/?ref=eda; Value: *
footprint *DIL16
pins: 1 I1 (in), 2 I2 (in), 3 I3 (in), 4 I4 (in), 5 I5 (in), 6 I6 (in), 7 I7 (in), 8 GND (power), 9 CD+, 10 O7 (oc), 11 O6 (oc), 12 O5 (oc), 13 O4 (oc), 14 O3 (oc), 15 O2 (oc), 16 O1 (oc)

## ULN2003A_1
designator IC?, comment ULN2003A
DARLINGTON ARRAY 7NPN, 2003, DIP16; Transistor Polarity:NPN; Collector Emitter Voltage V(br)ceo:50V; DC Collector Current:500mA; DC Current Gain hFE:1000; Operating Temperature Range:-20Â°C to +85Â°C; Transistor Case Style:DIP; No. of Pins:16; SVHC:No SVHC (20-Jun-2011); Base Number:2003; Current Ic Continuous a Max:500mA; Device Marking:ULN2003A; IC Generic Number:2003; Input Type:TTL, CMOS 5V; Input Voltage Max:5V; Logic Function Number:2003; Module Configuration:Seven; No. of Channels:7; No. of Transistors:7; Operating Temperature Max:85Â°C; Operating Temperature Min:-20Â°C; Output Current Max:500mA; Output Type:Open Collector; Output Voltage Max:50V; Package / Case:DIP; Termination Type:Through Hole; Transistor Type:Power Darlington; MF: STMicroelectronics; SnapEDA_Link: https://www.snapeda.com/parts/ULN2003A/STMicroelectronics/view-part/?ref=snap; Package: DIP-16 Sprague; MP: ULN2003A; Check_prices: https://www.snapeda.com/parts/ULN2003A/STMicroelectronics/view-part/?ref=eda; Value: *
footprint *SO16
pins: 1 I1 (in), 2 I2 (in), 3 I3 (in), 4 I4 (in), 5 I5 (in), 6 I6 (in), 7 I7 (in), 8 GND (power), 9 CD+, 10 O7 (out), 11 O6 (out), 12 O5 (out), 13 O4 (out), 14 O3 (out), 15 O2 (out), 16 O1 (out)

## ULN2803A
designator U?
Bipolar (BJT) Transistor Array 8 NPN Darlington 50V 500mA - 2.25W Through Hole 18-DIP; MP: ULN2803A; MF: STMicroelectronics; Check_prices: https://www.snapeda.com/parts/ULN2803A/STMicroelectronics/view-part/?ref=eda; Value: *; Availability: In Stock; Price: None; Package: DIP-18 Allegro MicroSystems LLC; SnapEDA_Link: https://www.snapeda.com/parts/ULN2803A/STMicroelectronics/view-part/?ref=snap; Purchase-URL: https://pricing.snapeda.com/search/part/ULN2803A/?ref=eda
footprint ULN2803_DIP
pins: 1 IN_1 (in), 2 IN_2 (in), 3 IN_3 (in), 4 IN_4 (in), 5 IN_5 (in), 6 IN_6 (in), 7 IN_7 (in), 8 IN_8 (in), 9 GND (power), 10 COMMON (out), 11 OUT_8 (out), 12 OUT_7 (out), 13 OUT_6 (out), 14 OUT_5 (out), 15 OUT_4 (out), 16 OUT_3 (out), 17 OUT_2 (out), 18 OUT_1 (out)

## ULN2803ADWR
designator U
50-V, 8-ch darlington array 18-SOIC -40 to 85; MF: Texas Instruments; MP: ULN2803ADWR; Texas_Instruments-Purchase-URL: https://snapeda.com/shop?store=Texas+Instruments&id=38031; SnapEDA_Link: https://www.snapeda.com/parts/ULN2803ADWR/Texas%20Instruments/view-part/38031/?ref=snap; Package: SOIC-18 Texas Instruments; Mouser-Purchase-URL: https://snapeda.com/shop?store=Mouser&id=38031; Price: None; Value: *; DigiKey-Purchase-URL: https://snapeda.com/shop?store=DigiKey&id=38031; Availability: Good; Arrow_Electronics-Purchase-URL: https://snapeda.com/shop?store=Arrow+Electronics&id=38031
footprint SOIC127P1030X265-18N
pins: 1 1B (in), 2 2B (in), 3 3B (in), 4 4B (in), 5 5B (in), 6 6B (in), 7 7B (in), 8 8B (in), 9 GND (power), 10 COM (io), 11 8C (out), 12 7C (out), 13 6C (out), 14 5C (out), 15 4C (out), 16 3C (out), 17 2C (out), 18 1C (out)